# EAGLE library part USB2V (library USB2V)
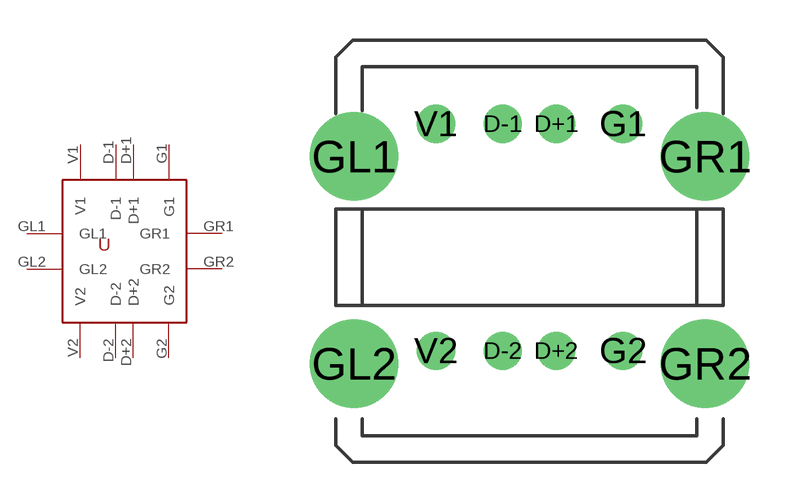
[diagram p0: symbol with the pads of USB2V; footprint USB2V]

Designator prefix -

## USB2V  [USB2V]
D+1  D+1
D+2  D+2
D-1  D-1
D-2  D-2
G1  G1
G2  G2
GL1  GL1
GL2  GL2
GR1  GR1
GR2  GR2
V1  V1
V2  V2

## Footprint USB2V (pad centres in mm)
drill 0.92: D+1 1,8.5; D+2 1,0; D-1 -1,8.5; D-2 -1,0; G1 3.5,8.5; G2 3.5,0; V1 -3.5,8.5; V2 -3.5,0
drill 2.3: GL1 -6.57,7.28; GL2 -6.57,-0.48; GR1 6.57,7.28; GR2 6.57,-0.48